# EAGLE library part IS62WV102416DALL-* (library memory-issi-asynsram)
1024k x 16 low voltage, ultra low power CMOS static RAM 55ns access time 1.98V power supply
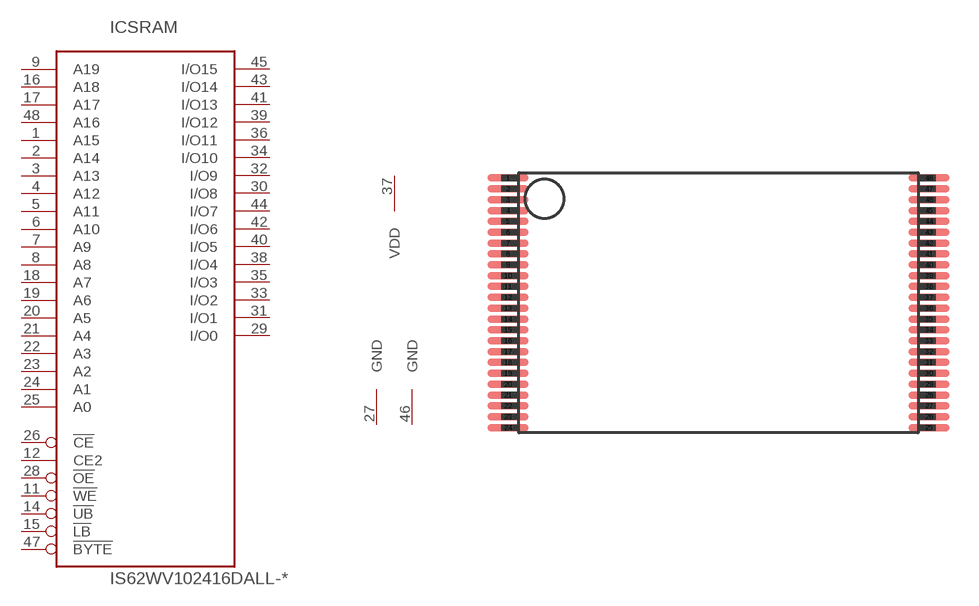
[diagram p144: symbol with the pads of TSOP-I-48-12X40MM; footprint TSOP-I-48-12X40MM]

Designator prefix IC; gates SRAM=1024KX16_TYP3 PWR=PWR_VDD1_GND2

## IS62WV102416DALL-55T  [TSOP-I-48-12X40MM]
1  SRAM:A15  in
2  SRAM:A14  in
3  SRAM:A13  in
4  SRAM:A12  in
5  SRAM:A11  in
6  SRAM:A10  in
7  SRAM:A9  in
8  SRAM:A8  in
9  SRAM:A19  in
11  SRAM:!WE  in
12  SRAM:CE2  in
14  SRAM:!UB  in
15  SRAM:!LB  in
16  SRAM:A18  in
17  SRAM:A17  in
18  SRAM:A7  in
19  SRAM:A6  in
20  SRAM:A5  in
21  SRAM:A4  in
22  SRAM:A3  in
23  SRAM:A2  in
24  SRAM:A1  in
25  SRAM:A0  in
26  SRAM:!CE  in
27  PWR:GND  pwr
28  SRAM:!OE  in
29  SRAM:I/O0  hiz
30  SRAM:I/O8  hiz
31  SRAM:I/O1  hiz
32  SRAM:I/O9  hiz
33  SRAM:I/O2  hiz
34  SRAM:I/O10  hiz
35  SRAM:I/O3  hiz
36  SRAM:I/O11  hiz
37  PWR:VDD  pwr
38  SRAM:I/O4  hiz
39  SRAM:I/O12  hiz
40  SRAM:I/O5  hiz
41  SRAM:I/O13  hiz
42  SRAM:I/O6  hiz
43  SRAM:I/O14  hiz
44  SRAM:I/O7  hiz
45  SRAM:I/O15  hiz
46  PWR:GND  pwr
47  SRAM:!BYTE  in
48  SRAM:A16  in

## Footprint TSOP-I-48-12X40MM (pad centres in mm)
TSOP-I-48 48-pin thin small-outline package, Typ I
smd 1.9 x 0.34: 1 -9.7,5.75; 2 -9.7,5.25; 3 -9.7,4.75; 4 -9.7,4.25; 5 -9.7,3.75; 6 -9.7,3.25; 7 -9.7,2.75; 8 -9.7,2.25; 9 -9.7,1.75; 10 -9.7,1.25; 11 -9.7,0.75; 12 -9.7,0.25; 13 -9.7,-0.25; 14 -9.7,-0.75; 15 -9.7,-1.25; 16 -9.7,-1.75; 17 -9.7,-2.25; 18 -9.7,-2.75; 19 -9.7,-3.25; 20 -9.7,-3.75; 21 -9.7,-4.25; 22 -9.7,-4.75; 23 -9.7,-5.25; 24 -9.7,-5.75; 25 9.7,-5.75; 26 9.7,-5.25; 27 9.7,-4.75; 28 9.7,-4.25; 29 9.7,-3.75; 30 9.7,-3.25; 31 9.7,-2.75; 32 9.7,-2.25; 33 9.7,-1.75; 34 9.7,-1.25; 35 9.7,-0.75; 36 9.7,-0.25; 37 9.7,0.25; 38 9.7,0.75; 39 9.7,1.25; 40 9.7,1.75; 41 9.7,2.25; 42 9.7,2.75; 43 9.7,3.25; 44 9.7,3.75; 45 9.7,4.25; 46 9.7,4.75; 47 9.7,5.25; 48 9.7,5.75